# Altium footprint library STM32H747XIH6 CB V1.2.PcbLib: 32 footprints (part 2 of 2)
Each footprint in its own frame and in the unit in brackets; x right, y up, seen from the top. Pads: shape width x height; smd on the part's side, far side on the other; paste and mask are expansions set on the pad; w line width, h text height; cw(c..) or ccw(c..) is an arc to the next point about the centre after c.
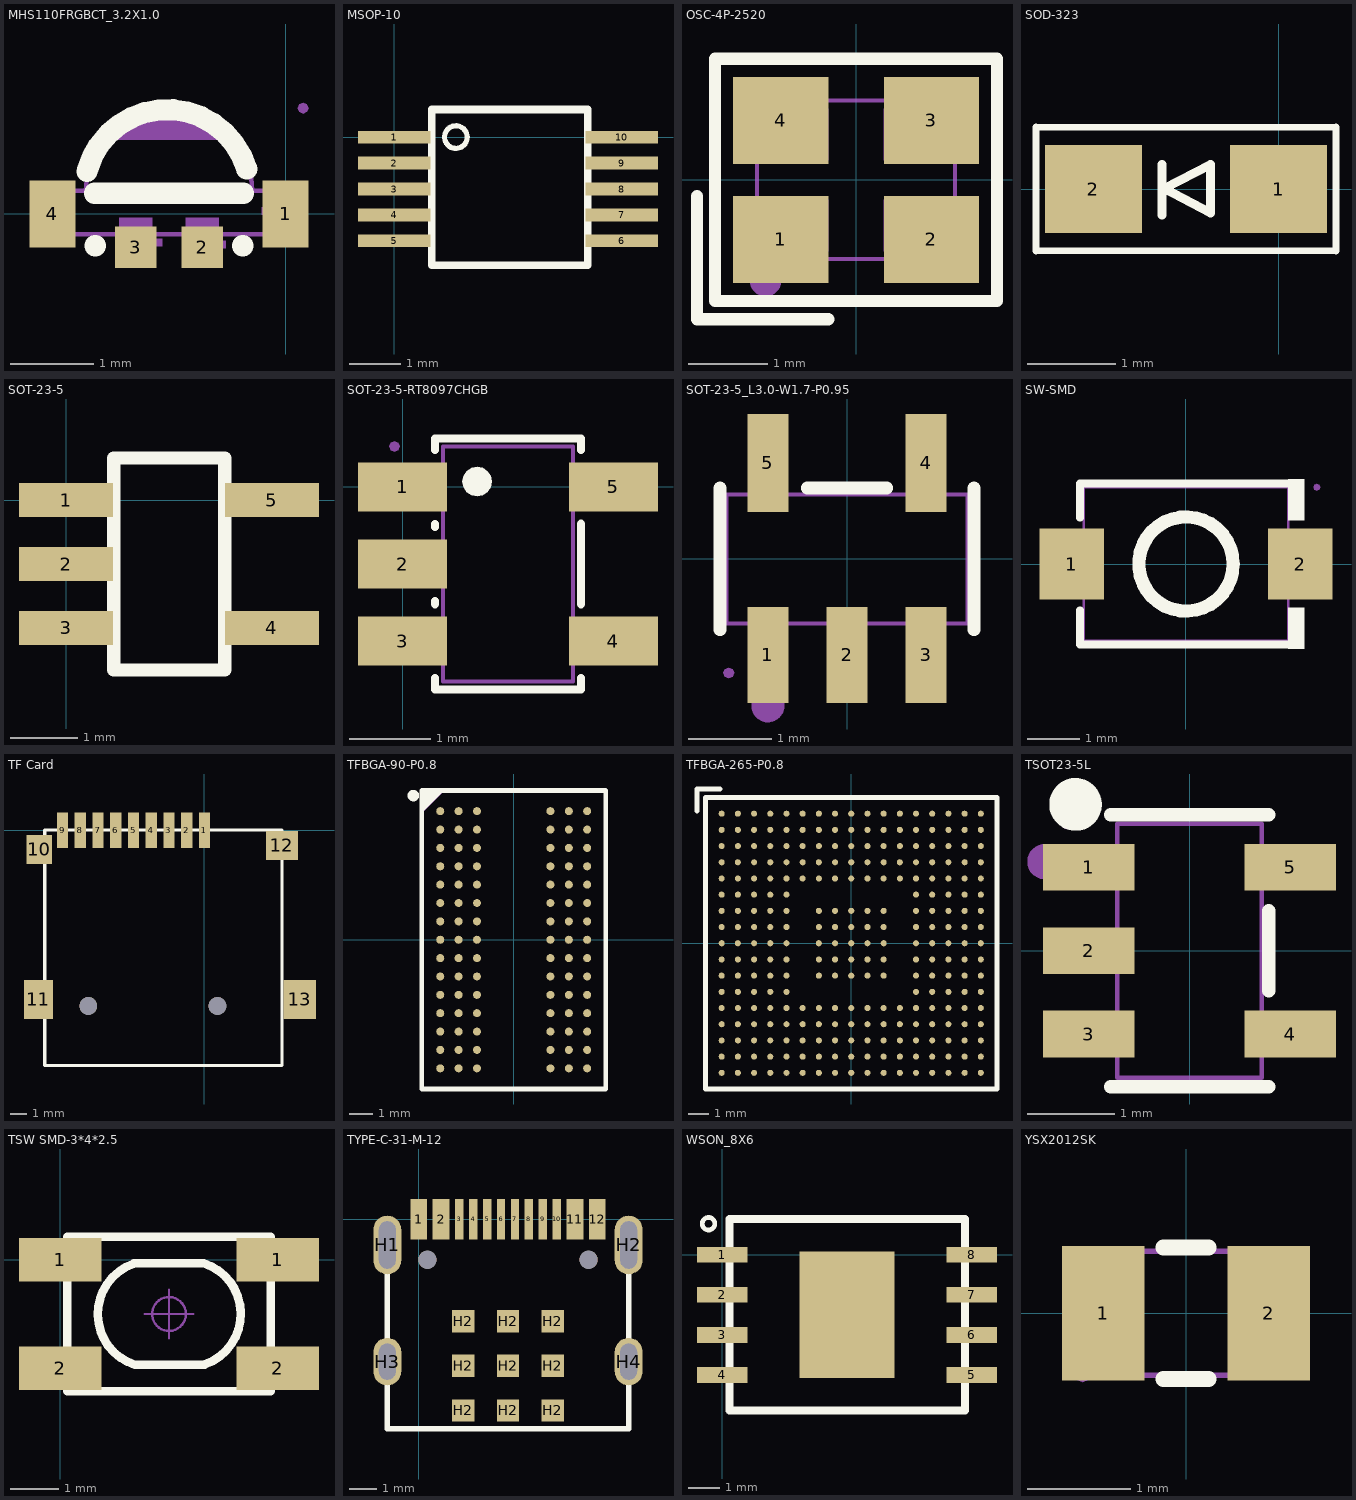
[diagram p1: the footprints below, top view; thin cyan lines are the x and y axes]

## MHS110FRGBCT_3.2X1.0 [mm]
pads (4):
  rect 0.55x0.8 smd: 1(0,0) 4(-2.8,0)
  rect 0.5x0.5 smd: 2(-1,-0.4) 3(-1.8,-0.4)
Top Overlay:
  lines w0.254: -2.383,0.511 cw(c-1.421,0.258) -0.468,0.539 ; -2.294,0.249 -0.506,0.249 ; -2.289,-0.381 -2.281,-0.381 ; -0.519,-0.381 -0.511,-0.381
Mechanical 6:
  region: -0.606,0.885 -2.181,0.89 -2.096,0.987 -1.892,1.143 -1.654,1.242 -1.399,1.276 -1.399,1.267 -1.399,1.276 -1.14,1.242 -0.899,1.142 -0.691,0.983 -0.697,0.976
  region: -3.04,-0.05 -3.04,0.04 -2.57,0.04 -2.57,-0.05
  region: -1.95,-0.39 -1.95,-0.3 -1.48,-0.3 -1.48,-0.39
  region: -1.19,-0.41 -1.19,-0.32 -0.72,-0.32 -0.72,-0.41
  region: -0.01,-0.2 -0.1,-0.2 -0.1,0.27 -0.01,0.27
  region: -0.29,-0.01 -0.29,0.08 0.18,0.08 0.18,-0.01
Mechanical 15:
  region: 0.275,1.27 0.256,1.224 0.21,1.205 0.164,1.224 0.145,1.27 0.164,1.316 0.21,1.335 0.256,1.316
  region: -3.01,0.257 -2.61,0.257 -2.61,-0.243 -3.01,-0.243
  region: 0.21,-0.243 -0.19,-0.243 -0.19,0.257 0.21,0.257
  region: -1.6,-0.243 -2,-0.243 -2,-0.043 -1.6,-0.043
  region: -0.8,-0.243 -1.2,-0.243 -1.2,-0.043 -0.8,-0.043
  lines w0.051: -3.01,-0.243 -3.01,0.277 -2.4,0.277 -2.38,0.477 -2.35,0.577 -2.312,0.673 -2.271,0.767 -2.212,0.856 -2.144,0.933 -2.069,1.007 -1.989,1.079 -1.903,1.136 -1.61,1.25 -1.394,1.27 -1.193,1.249 -0.902,1.138 -0.785,1.051 -0.654,0.929 -0.52,0.758 -0.455,0.587 -0.413,0.432 -0.4,0.277 0.21,0.277 0.21,-0.243 -3.01,-0.243

## MSOP-10 [mm]
pads (10):
  rect 1.4x0.25 smd: 1(0,0) 2(0,-0.5) 3(0,-1) 4(0,-1.5) 5(0,-2) 6(4.4,-2) 7(4.4,-1.5) 8(4.4,-1) 9(4.4,-0.5) 10(4.4,0)
Top Overlay:
  circle w0.1: c1.192,0.004 r0.219
  lines w0.15: 0.727,-2.473 0.727,0.538 3.741,0.538 3.741,-0.927 3.741,-2.473 0.727,-2.473

## OSC-4P-2520 [mm]
pads (4):
  rect 1.2x1.1 smd: 1(-0.95,-0.75) 2(0.95,-0.75) 3(0.95,0.75) 4(-0.95,0.75)
Top Overlay:
  lines w0.152: -2.007,-0.201 -2.007,-1.758 -0.351,-1.758 ; -1.779,-1.529 1.779,-1.529 1.779,1.529 -1.779,1.529 -1.779,-1.529
Mechanical 6:
  circle w0.2: c-1.143,-1.27 r0.1
Mechanical 15:
  region: 1.15,0.25 0.35,0.25 0.35,0.9 1.15,0.9
  region: -0.35,0.25 -1.15,0.25 -1.15,0.9 -0.35,0.9
  region: -0.35,-0.9 -1.15,-0.9 -1.15,-0.25 -0.35,-0.25
  region: 0.35,-0.25 1.15,-0.25 1.15,-0.9 0.35,-0.9
  region: -1.185,-1 -1.204,-1.046 -1.25,-1.065 -1.296,-1.046 -1.315,-1 -1.296,-0.954 -1.25,-0.935 -1.204,-0.954
  lines w0.051: -1.25,-1 1.25,-1 1.25,1 -1.25,1 -1.25,-1

## SOD-323 [mm]
pads (2):
  rect 1.1x1 smd: 1(0,0) 2(-2.1,0)
Top Overlay:
  lines w0.076: -2.75,-0.7 0.65,-0.7 ; -2.75,0.7 0.65,0.7
  lines w0.08: -2.75,-0.7 -2.75,0.7 ; 0.65,-0.7 0.65,0.7
  lines w0.1: -1.321,-0.296 -1.321,0.279 ; -1.296,0.004 -0.771,-0.271 -0.771,0.279 -1.296,0.004

## SOT-23-5 [mm]
pads (5):
  rect 1.4x0.5 smd: 1(0,0) 2(0,-0.95) 3(0,-1.9) 4(3.058,-1.9) 5(3.058,0)
Top Overlay:
  lines w0.2: 0.708,-2.371 0.708,0.625 2.358,0.625 2.358,-2.386 ; 0.708,-2.325 0.708,-2.525 2.358,-2.525 2.358,-2.3

## SOT-23-5-RT8097CHGB [mm]
pads (5):
  rect 1.1x0.6 smd: 1(0,0) 2(0,-0.95) 3(0,-1.9) 4(2.6,-1.9) 5(2.6,0)
Top Overlay:
  region: 1.099,0.066 1.1,0.064 1.086,-0.005 1.047,-0.064 0.988,-0.103 0.919,-0.117 0.85,-0.103 0.791,-0.064 0.752,-0.005 0.739,0.064 0.739,0.066 0.739,0.068 0.752,0.137 0.791,0.196 0.85,0.235 0.919,0.249 0.988,0.235 1.047,0.196 1.086,0.137 1.1,0.068
  lines w0.1: 0.4,-2.354 0.4,-2.5 2.2,-2.5 2.2,-2.354 ; 0.4,-1.446 0.4,-1.404 ; 0.4,-0.496 0.4,-0.454 ; 0.4,0.454 0.4,0.6 2.2,0.6 2.2,0.454 ; 2.2,-1.446 2.2,-0.454
Mechanical 15:
  region: -0.165,0.5 -0.146,0.546 -0.1,0.565 -0.054,0.546 -0.035,0.5 -0.054,0.454 -0.1,0.435 -0.146,0.454
  region: 2.7,0.2 2.7,-0.2 2.25,-0.2 2.25,0.2
  region: 2.26,0.2 2.26,-0.2 2.09,-0.2 2.09,0.2
  region: 2.7,-1.7 2.7,-2.1 2.25,-2.1 2.25,-1.7
  region: 2.26,-1.7 2.26,-2.1 2.09,-2.1 2.09,-1.7
  region: 0.35,-1.7 0.35,-2.1 -0.1,-2.1 -0.1,-1.7
  region: 0.51,-1.7 0.51,-2.1 0.34,-2.1 0.34,-1.7
  region: 0.35,-0.75 0.35,-1.15 -0.1,-1.15 -0.1,-0.75
  region: 0.51,-0.75 0.51,-1.15 0.34,-1.15 0.34,-0.75
  region: 0.35,0.2 0.35,-0.2 -0.1,-0.2 -0.1,0.2
  region: 0.51,0.2 0.51,-0.2 0.34,-0.2 0.34,0.2
  lines w0.051: 0.5,-2.4 0.5,0.5 2.1,0.5 2.1,-2.4 0.5,-2.4

## SOT-23-5_L3.0-W1.7-P0.95 [mm]
pads (5):
  rect 0.49x1.157 smd: 1(-0.95,-1.154) 2(0,-1.154) 3(0.95,-1.154)
  rect 0.49x1.175 smd: 4(0.95,1.154) 5(-0.95,1.154)
Top Overlay:
  lines w0.152: -1.526,-0.851 -1.526,0.851 ; -0.476,0.851 0.476,0.851 ; 1.526,-0.851 1.526,0.851
Mechanical 2:
  circle w0.2: c-0.95,-1.763 r0.1
Mechanical 6:
  lines w0.051: -1.45,-0.775 1.45,-0.775 1.45,0.775 -1.45,0.775 -1.45,-0.775
Mechanical 7:
  region: -1.125,0.74 -1.125,1.01 -0.775,1.01 -0.775,0.74
  region: 0.775,0.74 0.775,1.01 1.125,1.01 1.125,0.74
  region: 0.775,-1.01 0.775,-0.74 1.125,-0.74 1.125,-1.01
  region: -0.175,-1.01 -0.175,-0.74 0.175,-0.74 0.175,-1.01
  region: -1.125,-1.01 -1.125,-0.74 -0.775,-0.74 -0.775,-1.01
Mechanical 8:
  region: -1.355,-1.37 -1.374,-1.416 -1.42,-1.435 -1.466,-1.416 -1.485,-1.37 -1.466,-1.324 -1.42,-1.305 -1.374,-1.324
Mechanical 9:
  region: -1.125,1 -1.125,1.4 -0.775,1.4 -0.775,1
  region: 0.775,1 0.775,1.4 1.125,1.4 1.125,1
  region: 0.775,-1.4 0.775,-1 1.125,-1 1.125,-1.4
  region: -0.175,-1.4 -0.175,-1 0.175,-1 0.175,-1.4
  region: -1.125,-1.4 -1.125,-1 -0.775,-1 -0.775,-1.4

## SW-SMD [mm]
pads (2):
  rect 1.23x1.36 smd: 1(-2.185,0) 2(2.185,0)
Top Overlay:
  circle w0.254: c0,0 r0.9
  region: 1.95,1.617 1.95,0.832 2.255,0.832 2.255,1.617
  region: 1.95,-1.617 1.95,-0.832 2.255,-0.832 2.255,-1.617
  lines w0.152: -2.026,-0.883 -2.026,-1.541 2.026,-1.541 ; -2.026,0.883 -2.026,1.541 2.026,1.541
Mechanical 6:
  lines w0.051: -1.95,-1.465 -1.95,1.465 1.95,1.465 1.95,-1.465 -1.95,-1.465
Mechanical 8:
  region: 2.565,1.465 2.546,1.419 2.5,1.4 2.454,1.419 2.435,1.465 2.454,1.511 2.5,1.53 2.546,1.511
Mechanical 9:
  region: -2.5,0.65 -2.5,-0.65 -1.6,-0.65 -1.6,0.65
  region: 2.5,0.65 2.5,-0.65 1.6,-0.65 1.6,0.65

## TF Card [mm]
pads (15):
  rect 0.7x2.2 smd: 1(0,0) 2(-1.1,0) 3(-2.2,0) 4(-3.3,0) 5(-4.4,0) 6(-5.5,0) 7(-6.6,0) 8(-7.7,0) 9(-8.8,0)
  rect 1.6x1.8 smd: 10(-10.25,-1.2)
  rect 1.8x2.4 smd: 11(-10.3,-10.5)
  rect 2x1.8 smd: 12(4.8,-0.95)
  rect 2x2.4 smd: 13(5.9,-10.5)
  round 1.1 hole 1.1: ""(-7.2,-10.9) ""(0.8,-10.9)
Top Overlay:
  lines w0.2: -9.9,-14.6 -9.9,0 4.8,0 4.8,-14.6 -9.9,-14.6

## TFBGA-90-P0.8 [mm]
pads (90):
  round 0.35 smd: A1(-3.2,5.6) A2(-2.4,5.6) A3(-1.6,5.6) A7(1.6,5.6) A8(2.4,5.6) A9(3.2,5.6) B1(-3.2,4.8) B2(-2.4,4.8) B3(-1.6,4.8) B7(1.6,4.8) B8(2.4,4.8) B9(3.2,4.8) C1(-3.2,4) C2(-2.4,4) C3(-1.6,4) C7(1.6,4) C8(2.4,4) C9(3.2,4) D1(-3.2,3.2) D2(-2.4,3.2) D3(-1.6,3.2) D7(1.6,3.2) D8(2.4,3.2) D9(3.2,3.2) E1(-3.2,2.4) E2(-2.4,2.4) E3(-1.6,2.4) E7(1.6,2.4) E8(2.4,2.4) E9(3.2,2.4) F1(-3.2,1.6) F2(-2.4,1.6) F3(-1.6,1.6) F7(1.6,1.6) F8(2.4,1.6) F9(3.2,1.6) G1(-3.2,0.8) G2(-2.4,0.8) G3(-1.6,0.8) G7(1.6,0.8) G8(2.4,0.8) G9(3.2,0.8) H1(-3.2,0) H2(-2.4,0) H3(-1.6,0) H7(1.6,0) H8(2.4,0) H9(3.2,0) J1(-3.2,-0.8) J2(-2.4,-0.8) J3(-1.6,-0.8) J7(1.6,-0.8) J8(2.4,-0.8) J9(3.2,-0.8) K1(-3.2,-1.6) K2(-2.4,-1.6) K3(-1.6,-1.6) K7(1.6,-1.6) K8(2.4,-1.6) K9(3.2,-1.6) L1(-3.2,-2.4) L2(-2.4,-2.4) L3(-1.6,-2.4) L7(1.6,-2.4) L8(2.4,-2.4) L9(3.2,-2.4) M1(-3.2,-3.2) M2(-2.4,-3.2) M3(-1.6,-3.2) M7(1.6,-3.2) M8(2.4,-3.2) M9(3.2,-3.2) N1(-3.2,-4) N2(-2.4,-4) N3(-1.6,-4) N7(1.6,-4) N8(2.4,-4) N9(3.2,-4) P1(-3.2,-4.8) P2(-2.4,-4.8) P3(-1.6,-4.8) P7(1.6,-4.8) P8(2.4,-4.8) P9(3.2,-4.8) R1(-3.2,-5.6) R2(-2.4,-5.6) R3(-1.6,-5.6) R7(1.6,-5.6) R8(2.4,-5.6) R9(3.2,-5.6)
Top Overlay:
  region: -3.149,6.5 -4,5.649 -4,6.5
  lines w0.2: -4,5.649 -3.149,6.5 ; -4,-6.5 -4,6.5 4,6.5 4,-6.5 -4,-6.5
  lines w0.25: -4.286,6.187 cw(c-4.373,6.277) -4.284,6.19
Mechanical 6:
  region: -4,6.5 -4,5.5 -3,6.5
Mechanical 15:
  region: -4.065,6.5 -4.046,6.546 -4,6.565 -3.954,6.546 -3.935,6.5 -3.954,6.454 -4,6.435 -4.046,6.454
  lines w0.051: -4,-6.5 4,-6.5 4,6.5 -4,6.5 -4,-6.5

## TFBGA-265-P0.8 [mm]
pads (265):
  round 0.3 smd: A1(-6.4,6.4) A2(-5.6,6.4) A3(-4.8,6.4) A4(-4,6.4) A5(-3.2,6.4) A6(-2.4,6.4) A7(-1.6,6.4) A8(-0.8,6.4) A9(0,6.4) A10(0.8,6.4) A11(1.6,6.4) A12(2.4,6.4) A13(3.2,6.4) A14(4,6.4) A15(4.8,6.4) A16(5.6,6.4) A17(6.4,6.4) B1(-6.4,5.6) B2(-5.6,5.6) B3(-4.8,5.6) B4(-4,5.6) B5(-3.2,5.6) B6(-2.4,5.6) B7(-1.6,5.6) B8(-0.8,5.6) B9(0,5.6) B10(0.8,5.6) B11(1.6,5.6) B12(2.4,5.6) B13(3.2,5.6) B14(4,5.6) B15(4.8,5.6) B16(5.6,5.6) B17(6.4,5.6) C1(-6.4,4.8) C2(-5.6,4.8) C3(-4.8,4.8) C4(-4,4.8) C5(-3.2,4.8) C6(-2.4,4.8) C7(-1.6,4.8) C8(-0.8,4.8) C9(0,4.8) C10(0.8,4.8) C11(1.6,4.8) C12(2.4,4.8) C13(3.2,4.8) C14(4,4.8) C15(4.8,4.8) C16(5.6,4.8) C17(6.4,4.8) D1(-6.4,4) D2(-5.6,4) D3(-4.8,4) D4(-4,4) D5(-3.2,4) D6(-2.4,4) D7(-1.6,4) D8(-0.8,4) D9(0,4) D10(0.8,4) D11(1.6,4) D12(2.4,4) D13(3.2,4) D14(4,4) D15(4.8,4) D16(5.6,4) D17(6.4,4) E1(-6.4,3.2) E2(-5.6,3.2) E3(-4.8,3.2) E4(-4,3.2) E5(-3.2,3.2) E6(-2.4,3.2) E7(-1.6,3.2) E8(-0.8,3.2) E9(0,3.2) E10(0.8,3.2) E11(1.6,3.2) E12(2.4,3.2) E13(3.2,3.2) E14(4,3.2) E15(4.8,3.2) E16(5.6,3.2) E17(6.4,3.2) F1(-6.4,2.4) F2(-5.6,2.4) F3(-4.8,2.4) F4(-4,2.4) F5(-3.2,2.4) F13(3.2,2.4) F14(4,2.4) F15(4.8,2.4) F16(5.6,2.4) F17(6.4,2.4) G1(-6.4,1.6) G2(-5.6,1.6) G3(-4.8,1.6) G4(-4,1.6) G5(-3.2,1.6) G7(-1.6,1.6) G8(-0.8,1.6) G9(0,1.6) G10(0.8,1.6) G11(1.6,1.6) G13(3.2,1.6) G14(4,1.6) G15(4.8,1.6) G16(5.6,1.6) G17(6.4,1.6) H1(-6.4,0.8) H2(-5.6,0.8) H3(-4.8,0.8) H4(-4,0.8) H5(-3.2,0.8) H7(-1.6,0.8) H8(-0.8,0.8) H9(0,0.8) H10(0.8,0.8) H11(1.6,0.8) H13(3.2,0.8) H14(4,0.8) H15(4.8,0.8) H16(5.6,0.8) H17(6.4,0.8) J1(-6.4,0) J2(-5.6,0) J3(-4.8,0) J4(-4,0) J5(-3.2,0) J7(-1.6,0) J8(-0.8,0) J9(0,0) J10(0.8,0) J11(1.6,0) J13(3.2,0) J14(4,0) J15(4.8,0) J16(5.6,0) J17(6.4,0) K1(-6.4,-0.8) K2(-5.6,-0.8) K3(-4.8,-0.8) K4(-4,-0.8) K5(-3.2,-0.8) K7(-1.6,-0.8) K8(-0.8,-0.8) K9(0,-0.8) K10(0.8,-0.8) K11(1.6,-0.8) K13(3.2,-0.8) K14(4,-0.8) K15(4.8,-0.8) K16(5.6,-0.8) K17(6.4,-0.8) L1(-6.4,-1.6) L2(-5.6,-1.6) L3(-4.8,-1.6) L4(-4,-1.6) L5(-3.2,-1.6) L7(-1.6,-1.6) L8(-0.8,-1.6) L9(0,-1.6) L10(0.8,-1.6) L11(1.6,-1.6) L13(3.2,-1.6) L14(4,-1.6) L15(4.8,-1.6) L16(5.6,-1.6) L17(6.4,-1.6) M1(-6.4,-2.4) M2(-5.6,-2.4) M3(-4.8,-2.4) M4(-4,-2.4) M5(-3.2,-2.4) M13(3.2,-2.4) M14(4,-2.4) M15(4.8,-2.4) M16(5.6,-2.4) M17(6.4,-2.4) N1(-6.4,-3.2) N2(-5.6,-3.2) N3(-4.8,-3.2) N4(-4,-3.2) N5(-3.2,-3.2) N6(-2.4,-3.2) N7(-1.6,-3.2) N8(-0.8,-3.2) N9(0,-3.2) N10(0.8,-3.2) N11(1.6,-3.2) N12(2.4,-3.2) N13(3.2,-3.2) N14(4,-3.2) N15(4.8,-3.2) N16(5.6,-3.2) N17(6.4,-3.2) P1(-6.4,-4) P2(-5.6,-4) P3(-4.8,-4) P4(-4,-4) P5(-3.2,-4) P6(-2.4,-4) P7(-1.6,-4) P8(-0.8,-4) P9(0,-4) P10(0.8,-4) P11(1.6,-4) P12(2.4,-4) P13(3.2,-4) P14(4,-4) P15(4.8,-4) P16(5.6,-4) P17(6.4,-4) R1(-6.4,-4.8) R2(-5.6,-4.8) R3(-4.8,-4.8) R4(-4,-4.8) R5(-3.2,-4.8) R6(-2.4,-4.8) R7(-1.6,-4.8) R8(-0.8,-4.8) R9(0,-4.8) R10(0.8,-4.8) R11(1.6,-4.8) R12(2.4,-4.8) R13(3.2,-4.8) R14(4,-4.8) R15(4.8,-4.8) R16(5.6,-4.8) R17(6.4,-4.8) T1(-6.4,-5.6) T2(-5.6,-5.6) T3(-4.8,-5.6) T4(-4,-5.6) T5(-3.2,-5.6) T6(-2.4,-5.6) T7(-1.6,-5.6) T8(-0.8,-5.6) T9(0,-5.6) T10(0.8,-5.6) T11(1.6,-5.6) T12(2.4,-5.6) T13(3.2,-5.6) T14(4,-5.6) T15(4.8,-5.6) T16(5.6,-5.6) T17(6.4,-5.6) U1(-6.4,-6.4) U2(-5.6,-6.4) U3(-4.8,-6.4) U4(-4,-6.4) U5(-3.2,-6.4) U6(-2.4,-6.4) U7(-1.6,-6.4) U8(-0.8,-6.4) U9(0,-6.4) U10(0.8,-6.4) U11(1.6,-6.4) U12(2.4,-6.4) U13(3.2,-6.4) U14(4,-6.4) U15(4.8,-6.4) U16(5.6,-6.4) U17(6.4,-6.4)
Top Overlay:
  lines w0.254: -7.62,6.526 -7.62,7.62 -6.477,7.62 ; -7.2,-7.2 7.2,-7.2 7.2,7.2 -7.2,7.2 -7.2,-7.2

## TSOT23-5L [mm]
pads (5):
  rect 1.045x0.532 smd: 1(-1.148,0.95) 2(-1.148,0) 3(-1.148,-0.95) 4(1.148,-0.95) 5(1.148,0.95)
Top Overlay:
  circle w0.3: c-1.3,1.668 r0.15
  lines w0.152: -0.901,-1.551 0.901,-1.551 ; -0.901,1.551 0.901,1.551 ; 0.901,-0.455 0.901,0.455
Mechanical 6:
  circle w0.2: c-1.651,1.016 r0.1
Mechanical 15:
  region: -1.4,1.385 -1.446,1.404 -1.465,1.45 -1.446,1.496 -1.4,1.515 -1.354,1.496 -1.335,1.45 -1.354,1.404
  region: -0.95,1.163 -0.95,0.737 -1.4,0.737 -1.4,1.163
  region: -0.815,1.163 -0.815,0.737 -0.96,0.737 -0.96,1.163
  region: -0.95,0.212 -0.95,-0.212 -1.4,-0.212 -1.4,0.212
  region: -0.815,0.212 -0.815,-0.212 -0.96,-0.212 -0.96,0.212
  region: -0.95,-0.737 -0.95,-1.163 -1.4,-1.163 -1.4,-0.737
  region: -0.815,-0.737 -0.815,-1.163 -0.96,-1.163 -0.96,-0.737
  region: 0.95,-0.737 0.95,-1.163 1.4,-1.163 1.4,-0.737
  region: 0.96,-0.737 0.96,-1.163 0.815,-1.163 0.815,-0.737
  region: 0.95,1.163 0.95,0.737 1.4,0.737 1.4,1.163
  region: 0.96,1.163 0.96,0.737 0.815,0.737 0.815,1.163
  lines w0.051: -0.825,-1.45 0.825,-1.45 0.825,1.45 -0.825,1.45 -0.825,-1.45

## TSW SMD-3*4*2.5 [mm]
pads (4):
  rect 1.7x0.9 smd: 1(0,0) 1(4.5,0) 2(0,-2.25) 2(4.5,-2.25)
Top Overlay:
  lines w0.178: 0.15,-2.725 4.35,-2.725 ; 0.15,-1.775 0.15,-0.475 ; 0.15,0.475 4.35,0.475 ; 1.512,-0.088 ccw(c1.878,-1.125) 1.55,-2.175 2.987,-2.175 ; 1.525,-0.075 2.962,-0.075 cw(c2.634,-1.125) 3,-2.162 ; 4.35,-1.775 4.35,-0.475
Mechanical 15:
  circle w0.05: c2.25,-1.125 r0.35
  lines w0.05: 1.75,-1.125 2.75,-1.125 ; 2.25,-1.625 2.25,-0.625

## TYPE-C-31-M-12 [mm]
pads (27):
  rect 0.6x1.45 smd: 1(0,0) 2(0.8,0) 11(5.6,0) 12(6.4,0)
  rect 0.3x1.45 smd: 3(1.45,0) 4(1.95,0) 5(2.45,0) 6(2.95,0) 7(3.45,0) 8(3.95,0) 9(4.45,0) 10(4.95,0)
  oval 1x2.1 hole 0.6 slot 1.7 at 90 deg: H1(-1.125,-0.915) H2(7.525,-0.915)
  rect 0.8x0.8 smd: H2(1.6,-6.845) H2(1.6,-5.245) H2(1.6,-3.645) H2(3.2,-6.845) H2(3.2,-5.245) H2(3.2,-3.645) H2(4.8,-6.845) H2(4.8,-5.245) H2(4.8,-3.645)
  oval 1x1.7 hole 0.6 slot 1.3 at 90 deg: H3(-1.125,-5.095) H4(7.525,-5.095)
  round 0.65 hole 0.65 unplated: ""(0.31,-1.445) ""(6.09,-1.445)
Top Overlay:
  lines w0.2: -1.125,-0.915 -1.125,-5.095 -1.125,-7.502 7.525,-7.502 7.525,-5.095 7.525,-0.915

## WSON_8X6 [mm]
pads (9):
  rect 1.6x0.5 smd: 1(0,0) 2(0,-1.27) 3(0,-2.54) 4(0,-3.81) 5(7.9,-3.81) 6(7.9,-2.54) 7(7.9,-1.27) 8(7.9,0)
  rect 3x4 smd: ""(3.95,-1.905)
Top Overlay:
  circle w0.15: c-0.435,0.979 r0.2
  lines w0.254: 0.223,-4.938 7.691,-4.938 7.691,1.13 0.223,1.13 0.223,-4.938

## YSX2012SK [mm]
pads (2):
  rect 0.8x1.3 smd: 1(-0.8,0) 2(0.8,0)
Top Overlay:
  lines w0.152: -0.22,-0.635 0.22,-0.635 ; -0.22,0.635 0.22,0.635
Mechanical 15:
  region: -0.935,-0.6 -0.954,-0.646 -1,-0.665 -1.046,-0.646 -1.065,-0.6 -1.046,-0.554 -1,-0.535 -0.954,-0.554
  region: 0.5,0.6 1,0.6 1,-0.6 0.5,-0.6
  region: -1,0.6 -0.5,0.6 -0.5,-0.6 -1,-0.6
  lines w0.051: -1,-0.6 -1,0.6 1,0.6 1,-0.6 -1,-0.6